# EAGLE library part HDM20416L (library abi-lcd)
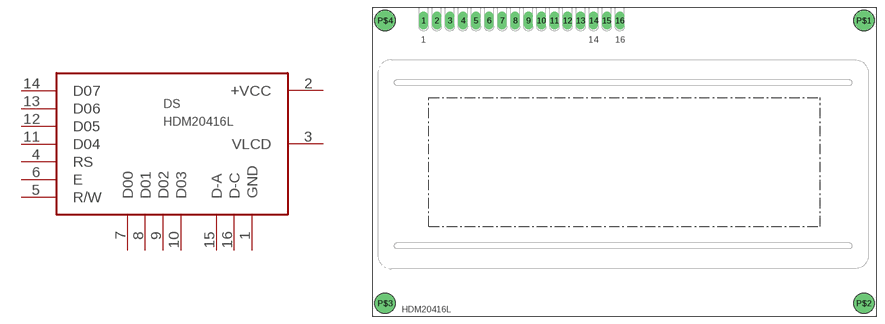
[diagram p2: symbol with the pads of HDM20416L; footprint HDM20416L]

Designator prefix DS

## HDM20416L  [HDM20416L]
1  GND
2  +VCC
3  VLCD
4  RS
5  R/W
6  E
7  D00
8  D01
9  D02
10  D03
11  D04
12  D05
13  D06
14  D07
15  D-A
16  D-C

## Footprint HDM20416L (pad centres in mm)
drill 1.016 pad 1.778 long: 1 -38.105,27.947; 2 -35.565,27.947; 3 -33.025,27.947; 4 -30.485,27.947; 5 -27.945,27.947; 6 -25.405,27.947; 7 -22.865,27.947; 8 -20.325,27.947; 9 -17.785,27.947; 10 -15.245,27.947; 11 -12.705,27.947; 12 -10.165,27.947; 13 -7.625,27.947; 14 -5.085,27.947; 15 -2.545,27.947; 16 -0.005,27.947
drill 2.54 pad 3.81 round: P$1 47.409,27.94; P$2 47.396,-27.064; P$3 -45.593,-27.064; P$4 -45.593,27.94